# Altium footprint library 691325310006.PcbLib: 1 footprints
Each footprint in its own frame and in the unit in brackets; x right, y up, seen from the top. Pads: shape width x height; smd on the part's side, far side on the other; paste and mask are expansions set on the pad; w line width, h text height; cw(c..) or ccw(c..) is an arc to the next point about the centre after c.
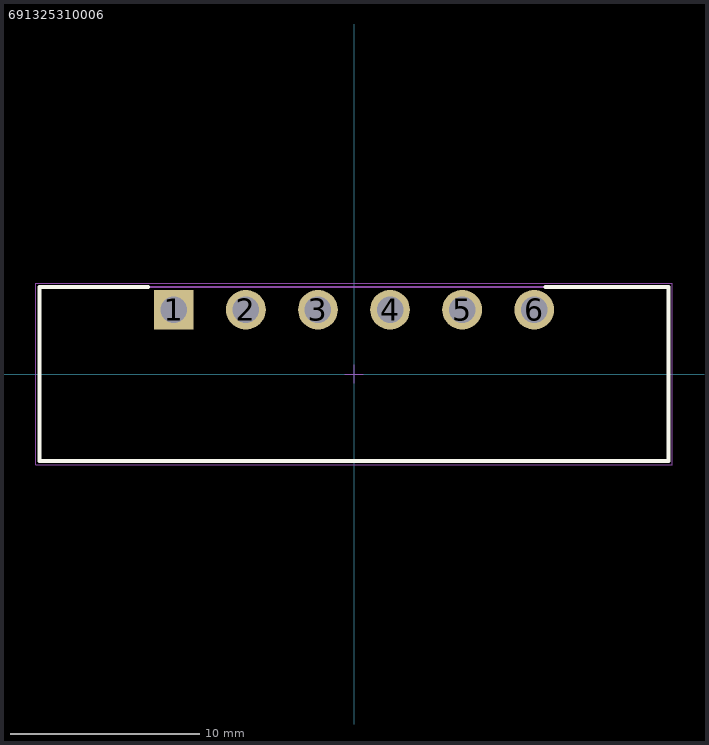
[diagram p0: the footprint, top view; thin cyan lines are the x and y axes]

## 691325310006 [mm] "Horizontal PCB Header with Flanges, pitch 3.81mm, 06p"
height 7
pads (6):
  rect 2.1x2.1 hole 1.4: 1(-9.525,3.4)
  round 2.1 hole 1.4: 2(-5.715,3.4) 3(-1.905,3.4) 4(1.905,3.4) 5(5.715,3.4) 6(9.525,3.4)
Top Overlay:
  lines w0.2: -10.875,4.6 -16.625,4.6 -16.625,-4.6 16.625,-4.6 16.625,4.6 10.115,4.6
Top Assembly:
  lines w0.05: -0.5,0 0.5,0 ; 0,-0.5 0,0.5
Top Courtyard:
  lines w0.05: -16.825,-4.8 16.825,-4.8 16.825,4.8 -16.825,4.8 -16.825,-4.8
  lines w0.1: -16.625,-4.6 16.625,-4.6 16.625,4.6 -16.625,4.6 -16.625,-4.6
3D body "691325310006.stp": height 7.3, standoff -3.4, extent -16.625,-4.6 16.625,4.6